# Altium schematic symbol library POWER.SchLib: 1 symbol
Pins are listed as number, name and electrical type; pins without a type are passive.

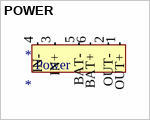
[diagram p0: symbol POWER]

## POWER
designator *
footprint power
pins: 1 OUT+, 2 OUT-, 3 IN+, 4 IN-, 5 BAT-, 6 BAT+
text: Power